# Altium footprint library SmartTokens.PcbLib: 28 footprints (part 2 of 2)
Each footprint in its own frame and in the unit in brackets; x right, y up, seen from the top. Pads: shape width x height; smd on the part's side, far side on the other; paste and mask are expansions set on the pad; w line width, h text height; cw(c..) or ccw(c..) is an arc to the next point about the centre after c.
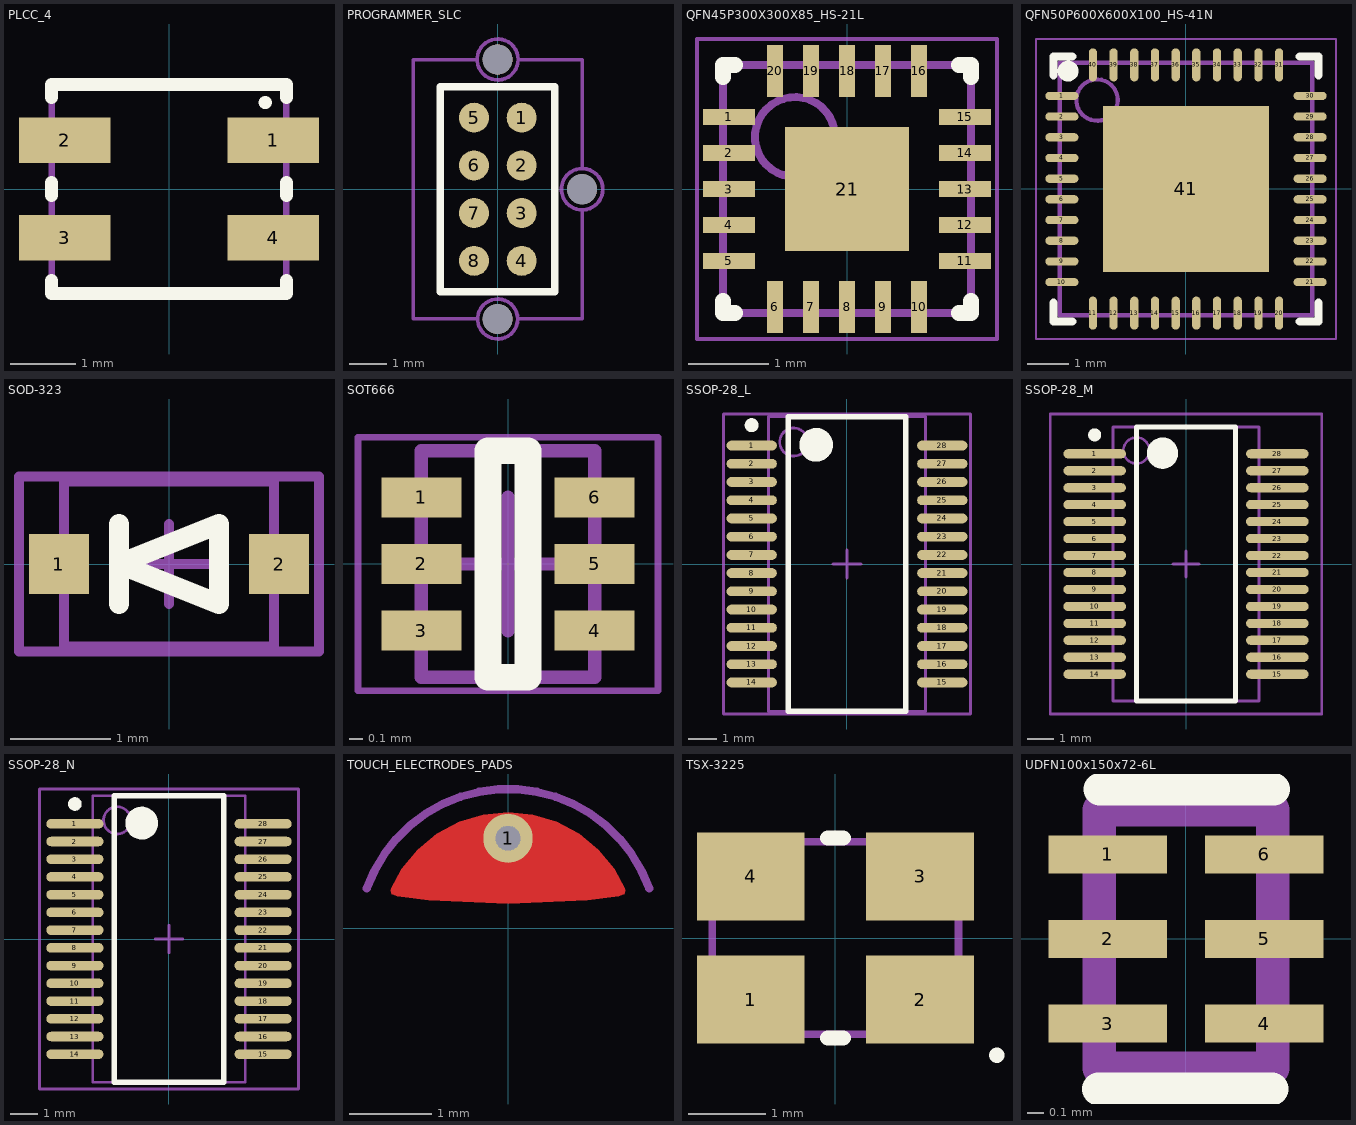
[diagram p1: the footprints below, top view; thin cyan lines are the x and y axes]

## PLCC_4 [mm]
height 1.9
pads (4):
  rect 1.4x0.7 smd: 1(1.6,0.75) 2(-1.6,0.75) 3(-1.6,-0.75) 4(1.6,-0.75)
Top Overlay:
  circle w0.2: c1.475,1.325 r0.001
  lines w0.2: -1.8,-1.4 -1.8,-1.6 1.8,-1.6 1.8,-1.4 ; -1.8,-0.1 -1.8,0.1 ; -1.8,1.4 -1.8,1.6 1.8,1.6 1.8,1.4 ; 1.8,-0.1 1.8,0.1
Mechanical 1:
  lines w0.1: -1.8,-1.6 1.8,-1.6 1.8,1.6 -1.8,1.6 -1.8,-1.6
3D body: height 1.9, standoff 0, extent -1.8,-1.6 1.8,1.6

## PROGRAMMER_SLC [mm]
pads (11):
  round 0.8 smd: 1(0.64,1.905) 2(0.64,0.635) 3(0.64,-0.635) 4(0.64,-1.905) 5(-0.63,1.905) 6(-0.63,0.635) 7(-0.63,-0.635) 8(-0.63,-1.905)
  round 0.8 hole 0.8 unplated paste+0 mask+0: ""(0,-3.455) ""(0,3.455) ""(2.25,0)
Top Overlay:
  lines w0.2: -1.525,-2.725 -1.525,2.725 1.525,2.725 1.525,-2.725 -1.525,-2.725
Mechanical 1:
  lines w0.1: -1.525,2.725 -1.525,-2.725 1.525,-2.725 1.525,2.725
Mechanical 13:
  lines w0.1: -1.525,2.725 1.525,2.725
Mechanical 15:
  circle w0.1: c0,-3.455 r0.532
  circle w0.1: c2.25,0 r0.55
  circle w0.1: c0,3.455 r0.545
  lines w0.1: -0.55,-3.45 -2.25,-3.45 -2.25,3.45 -0.55,3.45 ; 0.587,-3.45 2.25,-3.45 2.25,-0.55 ; 0.6,3.45 2.25,3.45 2.25,0.55

## QFN45P300X300X85_HS-21L [mm] "QFN, 20-Leads, Body 3.00x3.00mm, Pitch 0.45mm, Thermal Pad 1.55x1.55mm, IPC High Density"
height 0.85
pads (21):
  rect 0.65x0.2 smd: 1(-1.475,0.9) 2(-1.475,0.45) 3(-1.475,0) 4(-1.475,-0.45) 5(-1.475,-0.9) 11(1.475,-0.9) 12(1.475,-0.45) 13(1.475,0) 14(1.475,0.45) 15(1.475,0.9)
  rect 0.2x0.65 smd: 6(-0.9,-1.475) 7(-0.45,-1.475) 8(0,-1.475) 9(0.45,-1.475) 10(0.9,-1.475) 16(0.9,1.475) 17(0.45,1.475) 18(0,1.475) 19(-0.45,1.475) 20(-0.9,1.475)
  rect 1.55x1.55 smd: 21(0,0)
Top Overlay:
  lines w0.2: -1.55,-1.4 -1.55,-1.55 -1.4,-1.55 ; -1.55,1.4 -1.55,1.55 -1.4,1.55 ; 1.4,-1.55 1.55,-1.55 1.55,-1.4 ; 1.4,1.55 1.55,1.55 1.55,1.4
Mechanical 13:
  circle w0.1: c-0.65,0.65 r0.5
  lines w0.1: -1.55,-1.55 -1.55,1.55 1.55,1.55 1.55,-1.55 -1.55,-1.55
Mechanical 15:
  lines w0.05: -1.875,-1.875 -1.875,1.875 1.875,1.875 1.875,-1.875 -1.875,-1.875
  lines w0.1: -0.5,0 0.5,0 ; 0,-0.5 0,0.5
3D body: height 0.85, standoff 0.05, extent -1.55,-1.55 1.55,1.55

## QFN50P600X600X100_HS-41N [mm]
pads (41):
  oval 0.8x0.2 smd: 1(-3,2.25) 2(-3,1.75) 3(-3,1.25) 4(-3,0.75) 5(-3,0.25) 6(-3,-0.25) 7(-3,-0.75) 8(-3,-1.25) 9(-3,-1.75) 10(-3,-2.25) 21(3,-2.25) 22(3,-1.75) 23(3,-1.25) 24(3,-0.75) 25(3,-0.25) 26(3,0.25) 27(3,0.75) 28(3,1.25) 29(3,1.75) 30(3,2.25)
  oval 0.2x0.8 smd: 11(-2.25,-3) 12(-1.75,-3) 13(-1.25,-3) 14(-0.75,-3) 15(-0.25,-3) 16(0.25,-3) 17(0.75,-3) 18(1.25,-3) 19(1.75,-3) 20(2.25,-3) 31(2.25,3) 32(1.75,3) 33(1.25,3) 34(0.75,3) 35(0.25,3) 36(-0.25,3) 37(-0.75,3) 38(-1.25,3) 39(-1.75,3) 40(-2.25,3)
  rect 4x4 smd: 41(0,0)
Top Overlay:
  circle w0.25: c-2.85,2.85 r0.125
  lines w0.2: -3.2,-2.75 -3.2,-3.2 -2.75,-3.2 ; -3.2,2.75 -3.2,3.2 -2.75,3.2 ; 2.75,-3.2 3.2,-3.2 3.2,-2.75 ; 2.75,3.2 3.2,3.2 3.2,2.75
Mechanical 13:
  circle w0.1: c-2.15,2.15 r0.5
  lines w0.1: -3.05,-3.05 3.05,-3.05 3.05,3.05 -3.05,3.05 -3.05,-3.05
Mechanical 15:
  lines w0.05: -3.625,-3.625 3.625,-3.625 3.625,3.625 -3.625,3.625 -3.625,-3.625
  lines w0.1: -0.5,0 0.5,0 ; 0,-0.5 0,0.5
3D body: height 1, standoff 0, extent -3.05,-3.05 3.05,3.05

## SOD-323 [mm]
height 0.9
pads (2):
  rect 0.6x0.6 smd: 1(-1.1,0) 2(1.1,0)
Top Overlay:
  lines w0.2: -0.5,-0.4 -0.5,0.4 ; -0.5,0 0.5,-0.4 0.5,0.4 -0.5,0
Mechanical 1:
  lines w0.1: -1.05,-0.825 -1.05,0.825 1.05,0.825 1.05,-0.825 -1.05,-0.825
Mechanical 15:
  lines w0.1: -0.475,0 0.475,0 ; 0,-0.4 0,0.4 ; -1.5,-0.875 1.5,-0.875 1.5,0.875 -1.5,0.875 -1.5,-0.875
3D body: height 0.9, standoff 0, extent -1.05,-0.825 1.05,0.825

## SOT666 [mm] "SOT666, 6-Leads, Body 1.60x1.60mm, Pitch 0.50mm, IPC High Density"
height 0.6
pads (6):
  rect 0.6x0.3 smd: 1(-0.65,0.5) 2(-0.65,0) 3(-0.65,-0.5) 4(0.65,-0.5) 5(0.65,0) 6(0.65,0.5)
Top Overlay:
  lines w0.2: -0.15,-0.85 0.15,-0.85 0.15,0.85 -0.15,0.85 -0.15,-0.85
Mechanical 13:
  lines w0.1: -0.65,-0.85 -0.65,0.85 0.65,0.85 0.65,-0.85 -0.65,-0.85
Mechanical 15:
  lines w0.05: -1.125,-0.95 -1.125,0.95 1.125,0.95 1.125,-0.95 -1.125,-0.95
  lines w0.1: -0.5,0 0.5,0 ; 0,-0.5 0,0.5
3D body: height 0.6, standoff 0.18, extent -0.65,-0.85 0.65,0.85

## SSOP-28_L [mm] "SOP, 28-Leads, Body 10.2x5.3mm, Pitch 0.65mm, IPC High Density"
height 2
pads (28):
  oval 1.8x0.35 smd: 1(-3.4,4.225) 2(-3.4,3.575) 3(-3.4,2.925) 4(-3.4,2.275) 5(-3.4,1.625) 6(-3.4,0.975) 7(-3.4,0.325) 8(-3.4,-0.325) 9(-3.4,-0.975) 10(-3.4,-1.625) 11(-3.4,-2.275) 12(-3.4,-2.925) 13(-3.4,-3.575) 14(-3.4,-4.225) 15(3.4,-4.225) 16(3.4,-3.575) 17(3.4,-2.925) 18(3.4,-2.275) 19(3.4,-1.625) 20(3.4,-0.975) 21(3.4,-0.325) 22(3.4,0.325) 23(3.4,0.975) 24(3.4,1.625) 25(3.4,2.275) 26(3.4,2.925) 27(3.4,3.575) 28(3.4,4.225)
Top Overlay:
  circle w0.6: c-1.1,4.25 r0.3
  circle w0.25: c-3.4,4.95 r0.125
  lines w0.2: -2.1,-5.25 2.1,-5.25 2.1,5.25 -2.1,5.25 -2.1,-5.25
Mechanical 13:
  circle w0.1: c-1.9,4.35 r0.5
  lines w0.1: -2.8,-5.25 2.8,-5.25 2.8,5.25 -2.8,5.25 -2.8,-5.25
Mechanical 15:
  lines w0.1: -0.5,0 0.5,0 ; 0,-0.5 0,0.5 ; -4.4,-5.35 4.4,-5.35 4.4,5.35 -4.4,5.35 -4.4,-5.35
3D body: height 2, standoff 0.05, extent -2.8,-5.25 2.8,5.25

## SSOP-28_M [mm] "SOP, 28-Leads, Body 10.2x5.3mm, Pitch 0.65mm, IPC Low Density"
height 2
pads (28):
  oval 2.4x0.35 smd: 1(-3.5,4.225) 2(-3.5,3.575) 3(-3.5,2.925) 4(-3.5,2.275) 5(-3.5,1.625) 6(-3.5,0.975) 7(-3.5,0.325) 8(-3.5,-0.325) 9(-3.5,-0.975) 10(-3.5,-1.625) 11(-3.5,-2.275) 12(-3.5,-2.925) 13(-3.5,-3.575) 14(-3.5,-4.225) 15(3.5,-4.225) 16(3.5,-3.575) 17(3.5,-2.925) 18(3.5,-2.275) 19(3.5,-1.625) 20(3.5,-0.975) 21(3.5,-0.325) 22(3.5,0.325) 23(3.5,0.975) 24(3.5,1.625) 25(3.5,2.275) 26(3.5,2.925) 27(3.5,3.575) 28(3.5,4.225)
Top Overlay:
  circle w0.6: c-0.9,4.25 r0.3
  circle w0.25: c-3.5,4.95 r0.125
  lines w0.2: -1.9,-5.25 1.9,-5.25 1.9,5.25 -1.9,5.25 -1.9,-5.25
Mechanical 13:
  circle w0.1: c-1.9,4.35 r0.5
  lines w0.1: -2.8,-5.25 2.8,-5.25 2.8,5.25 -2.8,5.25 -2.8,-5.25
Mechanical 15:
  lines w0.1: -0.5,0 0.5,0 ; 0,-0.5 0,0.5 ; -5.2,-5.75 5.2,-5.75 5.2,5.75 -5.2,5.75 -5.2,-5.75
3D body: height 2, standoff 0.05, extent -2.8,-5.25 2.8,5.25

## SSOP-28_N [mm] "SOP, 28-Leads, Body 10.2x5.3mm, Pitch 0.65mm, IPC Medium Density"
height 2
pads (28):
  oval 2.1x0.35 smd: 1(-3.45,4.225) 2(-3.45,3.575) 3(-3.45,2.925) 4(-3.45,2.275) 5(-3.45,1.625) 6(-3.45,0.975) 7(-3.45,0.325) 8(-3.45,-0.325) 9(-3.45,-0.975) 10(-3.45,-1.625) 11(-3.45,-2.275) 12(-3.45,-2.925) 13(-3.45,-3.575) 14(-3.45,-4.225) 15(3.45,-4.225) 16(3.45,-3.575) 17(3.45,-2.925) 18(3.45,-2.275) 19(3.45,-1.625) 20(3.45,-0.975) 21(3.45,-0.325) 22(3.45,0.325) 23(3.45,0.975) 24(3.45,1.625) 25(3.45,2.275) 26(3.45,2.925) 27(3.45,3.575) 28(3.45,4.225)
Top Overlay:
  circle w0.25: c-3.45,4.95 r0.125
  circle w0.6: c-1,4.25 r0.3
  lines w0.2: -2,-5.25 -2,5.25 2,5.25 2,-5.25 -2,-5.25
Mechanical 13:
  circle w0.1: c-1.9,4.35 r0.5
  lines w0.1: -2.8,-5.25 -2.8,5.25 2.8,5.25 2.8,-5.25 -2.8,-5.25
Mechanical 15:
  lines w0.1: -0.5,0 0.5,0 ; 0,-0.5 0,0.5 ; -4.75,-5.5 -4.75,5.5 4.75,5.5 4.75,-5.5 -4.75,-5.5
3D body: height 2, standoff 0.05, extent -2.8,-5.25 2.8,5.25

## TOUCH_ELECTRODES_PADS [mm]
pads (1):
  round 0.6 hole 0.3 paste+0 mask+0: 1(0,1.1)
Top Layer:
  region: -1.38,0.405 -1.379,0.404 -1.347,0.391 -1.347,0.392 -0.964,0.342 0,0.3 0.964,0.342 1.347,0.392 1.347,0.391 1.379,0.404 1.38,0.405 1.377,0.404 1.414,0.42 1.43,0.458 1.422,0.478 1.427,0.48 1.295,0.726 1.102,0.962 0.866,1.156 0.596,1.3 0.304,1.389 0,1.419 -0.304,1.389 -0.596,1.3 -0.866,1.156 -1.102,0.962 -1.295,0.726 -1.427,0.48 -1.422,0.478 -1.43,0.458 -1.414,0.42 -1.377,0.404
Mechanical 13:
  lines w0.1: -1.721,0.489 cw(c0,-0.128) 1.721,0.489

## TSX-3225 [mm]
pads (4):
  rect 1.4x1.15 smd: 1(-1.1,-0.8) 2(1.1,-0.8) 3(1.1,0.8) 4(-1.1,0.8)
Top Overlay:
  circle w0.2: c2.1,-1.525 r0.001
  lines w0.2: -0.1,-1.3 0.1,-1.3 ; -0.1,1.3 0.1,1.3
Mechanical 1:
  lines w0.1: -1.6,-1.25 -1.6,1.25 1.6,1.25 1.6,-1.25 -1.6,-1.25
3D body: height 1.9, standoff 0, extent -1.6,-1.25 1.6,1.25

## UDFN100x150x72-6L [mil]
height 31.5
pads (6):
  rect 28x9 smd mask+4: 1(-18.5,20) 2(-18.5,0) 3(-18.5,-20) 4(18.5,-20) 5(18.5,0) 6(18.5,20)
Top Overlay:
  lines w7.87: -20.67,-35.43 20.33,-35.43 ; -20.33,35.43 20.67,35.43
Mechanical 1:
  lines w7.87: -20.5,-30.5 20.5,-30.5 20.5,30.5 -20.5,30.5 -20.5,-30.5
3D body: height 31.5, standoff 1.97, extent -20.67,-31.5 20.67,30.51